# EAGLE library part SN74LVC1G11DBVR (library parts)
SINGLE 3-INPUT POSITIVE-AND GATE
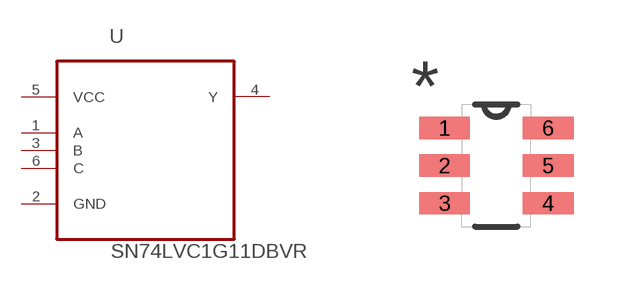
[diagram p1: symbol with the pads of SOT95P280X145-6N; footprint SOT95P280X145-6N]

Designator prefix U

## SN74LVC1G11DBVR (MPN: SN74LVC1G11DBVR; OC_FARNELL: 1607825; OC_NEWARK: 87H2655; PACKAGE: SOT-23-6; SUPPLIER: Texas Instruments)  [SOT95P280X145-6N]
1  A  in
2  GND  pas
3  B  in
4  Y  out
5  VCC  pwr
6  C  in

## Footprint SOT95P280X145-6N (pad centres in mm)
smd 1.27 x 0.559: 1 -1.295,0.94; 2 -1.295,0; 3 -1.295,-0.94; 4 1.295,-0.94; 5 1.295,0; 6 1.295,0.94